# Altium schematic symbol library Resistors.SchLib: 6 symbols
Pins are listed as number, name and electrical type; pins without a type are passive.

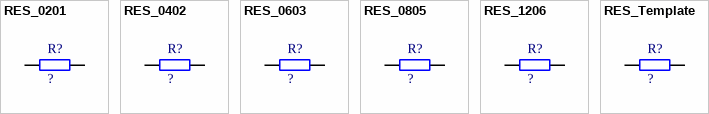
[diagram p0: symbols RES_0201 to RES_Template]

## RES_0201
designator R?, comment ?
0201 Thick Film Resistor - Surface Mount ROHS; Mfr. Part: ?; LCSC Part: ?; JLCPCB Part: ?; Value: ?
footprint RES_0201
pins: 1, 2

## RES_0402
designator R?, comment ?
0402 Thick Film Resistor - Surface Mount ROHS; Mfr. Part: ?; LCSC Part: ?; JLCPCB Part: ?; Value: ?
footprint RES_0402 (Thick Film Resistors, SMT, body size 1.6x0.8mm)
pins: 1, 2

## RES_0603
designator R?, comment ?
0603 Thick Film Resistor - Surface Mount ROHS; Mfr. Part: ?; LCSC Part: ?; JLCPCB Part: ?; Value: ?
footprint RES_0603 (Thick Film Resistors, SMT, body size 1.6x0.8mm)
pins: 1, 2

## RES_0805
designator R?, comment ?
0805 Thick Film Resistor - Surface Mount ROHS; Mfr. Part: ?; LCSC Part: ?; JLCPCB Part: ?; Value: ?
footprint RES_0805
pins: 1, 2

## RES_1206
designator R?, comment ?
1206 Thick Film Resistor - Surface Mount ROHS; Mfr. Part: ?; LCSC Part: ?; JLCPCB Part: ?; Value: ?
footprint RES_1206
pins: 1, 2

## RES_Template
designator R?, comment ?
Where is description?; Mfr. Part: ?; LCSC Part: ?; JLCPCB Part: ?; Value: ?
pins: 1, 2